# Altium schematic symbol library LP2995.SchLib: 1 symbol
Pins are listed as number, name and electrical type; pins without a type are passive.

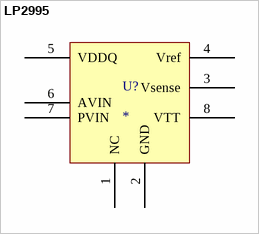
[diagram p0: symbol LP2995]

## LP2995
designator U?
footprint SOP8
pins: 1 NC, 2 GND, 3 Vsense, 4 Vref, 5 VDDQ, 6 AVIN, 7 PVIN, 8 VTT